# Altium schematic symbol library Lib1.SchLib: 50 symbols
Pins are listed as number, name and electrical type; pins without a type are passive.

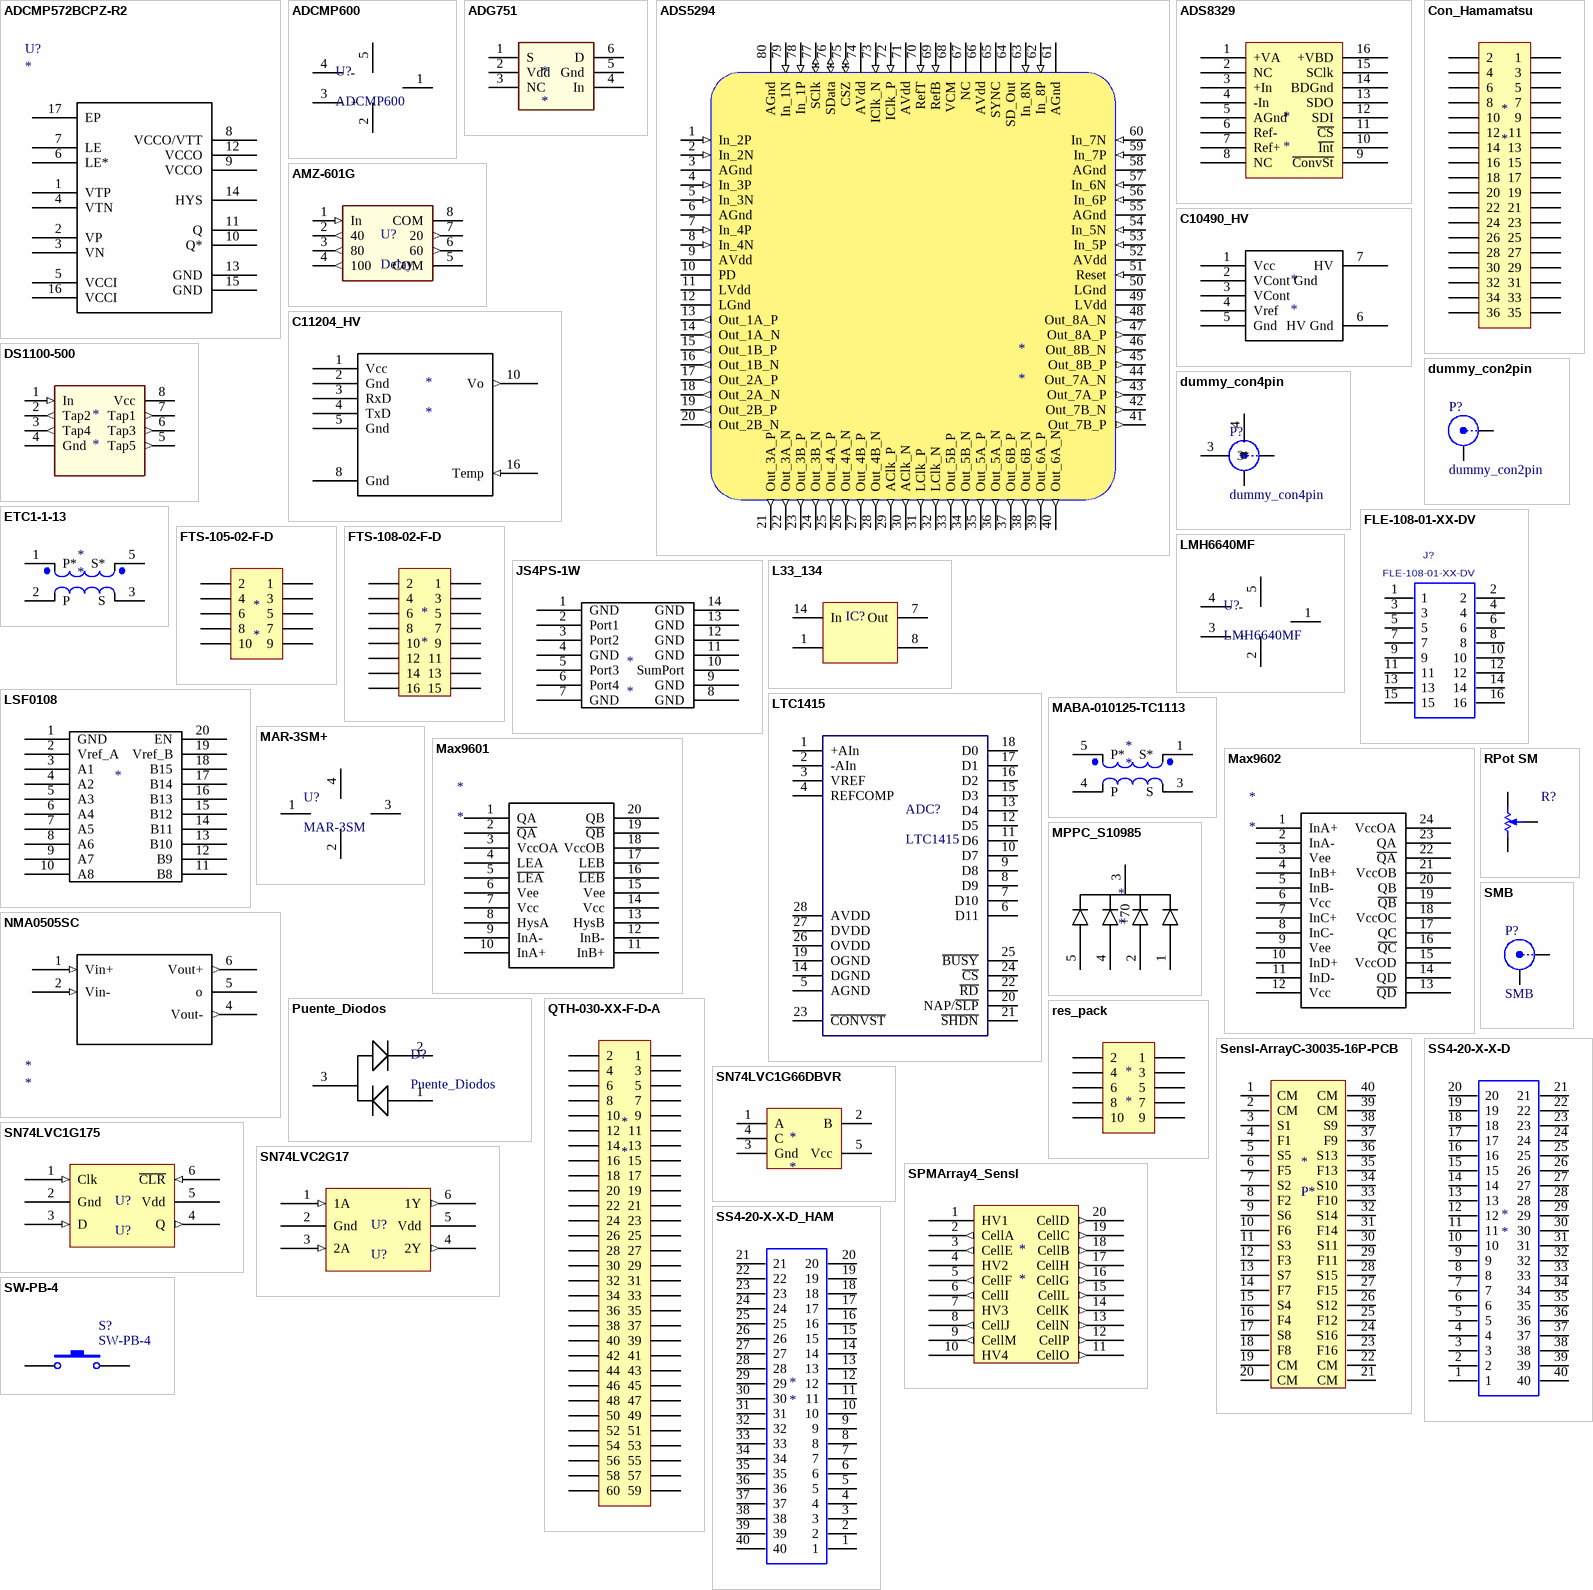
[diagram p0: symbols ADCMP572BCPZ-R2 to SW-PB-4]

## ADCMP572BCPZ-R2
designator U?
Imported; Manufacturer_Part_Number: ADCMP572BCPZ-R2; Vendor: Vendor; RefDes: RefDes; Type: DEV; Value: Value
footprint CP_16_3
pins: 1 VTP, 2 VP, 3 VN, 4 VTN, 5 VCCI (power), 6 LE*, 7 LE, 8 VCCO/VTT (power), 9 VCCO (power), 10 Q*, 11 Q, 12 VCCO (power), 13 GND, 14 HYS, 15 GND, 16 VCCI (power), 17 EP

## ADCMP600
designator U?
footprint SOT23-5_N (SOT23, 5-Leads, Body 2.9x1.6mm, Pitch 0.95mm, Lead Span 2.8mm, IPC Medium Density)
pins: 1, 2 (power), 3 +, 4 -, 5 (power)

## ADG751
designator *
footprint SOT-23_A (SOT-457/SC-74; 6 Leads; Body 3.1 x 3 mm, inc. leads (LxW max))
pins: 1 S, 2 Vdd (power), 3 NC, 4 In, 5 Gnd (power), 6 D

## ADS5294
designator *
footprint PFP80_M (80-Pin Plastic Quad Flat Pack PowerPAD, IPC Low Density)
pins: 1 In_2P (in), 2 In_2N (in), 3 AGnd (power), 4 In_3P (in), 5 In_3N (in), 6 AGnd (power), 7 In_4P (in), 8 In_4N (in), 9 AVdd (power), 10 PD, 11 LVdd (power), 12 LGnd (power), 13 Out_1A_P (out), 14 Out_1A_N (out), 15 Out_1B_P (out), 16 Out_1B_N (out), 17 Out_2A_P (out), 18 Out_2A_N (out), 19 Out_2B_P (out), 20 Out_2B_N (out), 21 Out_3A_P (out), 22 Out_3A_N (out), 23 Out_3B_P (out), 24 Out_3B_N (out), 25 Out_4A_P (out), 26 Out_4A_N (out), 27 Out_4B_P (out), 28 Out_4B_N (out), 29 AClk_P (out), 30 AClk_N (out), 31 LClk_P (out), 32 LClk_N (out), 33 Out_5B_P (out), 34 Out_5B_N (out), 35 Out_5A_P (out), 36 Out_5A_N (out), 37 Out_6B_P (out), 38 Out_6B_N (out), 39 Out_6A_P (out), 40 Out_6A_N (out), 41 Out_7B_P (out), 42 Out_7B_N (out), 43 Out_7A_P (out), 44 Out_7A_N (out), 45 Out_8B_P (out), 46 Out_8B_N (out), 47 Out_8A_P (out), 48 Out_8A_N (out), 49 LVdd (power), 50 LGnd (power), 51 Reset (in), 52 AVdd (power), 53 In_5P (in), 54 In_5N (in), 55 AGnd (power), 56 In_6P (in), 57 In_6N (in), 58 AGnd (power), 59 In_7P (in), 60 In_7N (in), 61 AGnd (power), 62 In_8P (in), 63 In_8N (in), 64 SD_Out, 65 SYNC, 66 AVdd (power), 67 NC, 68 VCM (power), 69 RefB (in), 70 RefT (in), 71 AVdd (power), 72 IClk_P (in), 73 IClk_N (in), 74 AVdd (power), 75 CSZ (io), 76 SData (io), 77 SClk (io), 78 In_1P (in), 79 In_1N (in), 80 AGnd (power)

## ADS8329
designator *
footprint PW-R-PDSO-G16
pins: 1 +VA, 2 NC, 3 +In, 4 -In, 5 AGnd, 6 Ref-, 7 Ref+, 8 NC, 9 ~{ConvSt}, 10 ~{Int}, 11 ~{CS}, 12 SDI, 13 SDO, 14 BDGnd, 15 SClk, 16 +VBD

## AMZ-601G
designator U?, comment Delay
footprint AMZ-G-SMD
pins: 1 In (in), 2 40 (out), 3 80 (out), 4 100 (out), 5 COM (power), 6 60 (out), 7 20 (out), 8 COM (power)

## C10490_HV
designator *
footprint C10490_Ham
pins: 1 Vcc (power), 2 VCont Gnd, 3 VCont, 4 Vref, 5 Gnd, 6 HV Gnd, 7 HV

## C11204_HV
designator *
footprint C11204_HAM
pins: 1 Vcc (power), 2 Gnd, 3 RxD, 4 TxD, 5 Gnd (power), 6 NC hidden, 7 HV hidden, 8 Gnd (power), 9 NC hidden, 10 Vo (out), 11 NC hidden, 12 NC hidden, 13 NC hidden, 14 NC hidden, 15 NC hidden, 16 Temp (in)

## Con_Hamamatsu
designator *
footprint TMM-118-XX-XX-D-SM (2.00mm pitch, 36 pin, terminal strip; double row, SMT)
footprint SQW-118-L-D
footprint SQW-118
pins: 1, 2, 3, 4, 5, 6, 7, 8, 9, 10, 11, 12, 13, 14, 15, 16, 17, 18, 19, 20, 21, 22, 23, 24, 25, 26, 27, 28, 29, 30, 31, 32, 33, 34, 35, 36

## DS1100-500
designator *
footprint SO-8_L (8-Pin Small Outline Integrated Circuit 1.27 mm Pitch, IPC High Density)
pins: 1 In (in), 2 Tap2 (out), 3 Tap4 (out), 4 Gnd (power), 5 Tap5 (out), 6 Tap3 (out), 7 Tap1 (out), 8 Vcc (power)

## dummy_con2pin
designator P?
SMB Straight Connector; LatestRevisionDate: 17-Jul-2002; LatestRevisionNote: Re-released for DXP Platform.; Publisher: Altium Limited
footprint 0603-2
footprint Osc_AB26TRB
footprint Osc_ABM3
footprint Osc_ABS07
pins: 1 X, 2 Y

## dummy_con4pin
designator P?
SMB Straight Connector; LatestRevisionDate: 17-Jul-2002; LatestRevisionNote: Re-released for DXP Platform.; Publisher: Altium Limited
footprint Osc_ABM8
pins: 1 X, 2 Y, 3, 4

## ETC1-1-13
designator *
footprint balun_trans (SOT-23/SC-74A; 5 Leads; Body 3 x 3 mm, inc. leads (LxW max))
pins: 1 P*, 2 P, 3 S, 5 S*

## FLE-108-01-XX-DV
designator J?
DUAL ROW 0.050'' STRIP ASSEMBLY.; MANUFACTURER: SAMTEC; CREATED: December 2, 2014 - Wendy Xin; PCB DECAL: FLE-108-01-XX-DV
footprint FLE-108-01-XX-DV
pins: 1, 2, 3, 4, 5, 6, 7, 8, 9, 10, 11, 12, 13, 14, 15, 16

## FTS-105-02-F-D
designator *
footprint FTS-105-XX-X-DV
footprint MHDR2X5 (Connector; Header; 5x2 Position)
pins: 1, 2, 3, 4, 5, 6, 7, 8, 9, 10

## FTS-108-02-F-D
designator *
footprint FTS-108-XX-X-DV
footprint MHDR2X8 (Connector; Header; 8x2 Position)
pins: 1, 2, 3, 4, 5, 6, 7, 8, 9, 10, 11, 12, 13, 14, 15, 16

## JS4PS-1W
designator *
footprint JS4PS-1W
pins: 1 GND (power), 2 Port1 (power), 3 Port2, 4 GND, 5 Port3, 6 Port4, 7 GND, 8 GND, 9 GND, 10 SumPort, 11 GND, 12 GND, 13 GND, 14 GND

## L33_134
designator IC?
footprint DIL14 (DIP; 14 Round Pins; Row Space 22.86 mm; Pitch 5.08 mm)
pins: 1  , 7 Out, 8, 14 In

## LMH6640MF
designator U?
footprint SOT23-5_N (SOT23, 5-Leads, Body 2.9x1.6mm, Pitch 0.95mm, Lead Span 2.8mm, IPC Medium Density)
pins: 1, 2 (power), 3 +, 4 -, 5 (power)

## LSF0108
designator *  (value not drawn)
footprint TSSOP20_M (Footprint not found)
pins: 1 GND (power), 2 Vref_A (power), 3 A1, 4 A2, 5 A3, 6 A4, 7 A5, 8 A6, 9 A7, 10 A8, 11 B8, 12 B9, 13 B10, 14 B11, 15 B12, 16 B13, 17 B14, 18 B15, 19 Vref_B, 20 EN

## LTC1415
designator ADC?
footprint SSOP28 (SSOP, Plastic; 28 Leads; Body Width 5.3 mm; Pitch 0.65 mm)
footprint SO28_N (28-Pin Plastic Small Outline Integrated Circuit 1.27 mm Pitch, IPC Medium Density)
pins: 1 +AIn, 2 -AIn, 3 VREF, 4 REFCOMP, 5 AGND, 6 D11, 7 D10, 8 D9, 9 D8, 10 D7, 11 D6, 12 D5, 13 D4, 14 DGND, 15 D3, 16 D2, 17 D1, 18 D0, 19 OGND, 20 NAP/~{SLP}, 21 ~{SHDN}, 22 ~{RD}, 23 ~{CONVST}, 24 ~{CS}, 25 ~{BUSY}, 26 OVDD, 27 DVDD, 28 AVDD

## MABA-010125-TC1113
designator *
footprint balun_trans (SOT-23/SC-74A; 5 Leads; Body 3 x 3 mm, inc. leads (LxW max))
footprint SM-22 (SOT-23/SC-74A; 5 Leads; Body 3 x 3 mm, inc. leads (LxW max))
pins: 1 S*, 3 S, 4 P, 5 P*

## MAR-3SM+
designator U?, comment MAR-3SM
footprint WW107 (SOT-23/SC-74A; 5 Leads; Body 3 x 3 mm, inc. leads (LxW max))
pins: 1, 2 (power), 3, 4 (power)

## Max9601
designator *
footprint TSSOP20 (Shrink Small Outline; 20 Leads; Body Width 4.4 mm; Pitch 0.65 mm)
pins: 1 QA, 2 ~{QA}, 3 VccOA, 4 LEA, 5 ~{LEA} (power), 6 Vee, 7 Vcc, 8 HysA (power), 9 InA- (power), 10 InA+, 11 InB+, 12 InB- (power), 13 HysB, 14 Vcc, 15 Vee, 16 ~{LEB} (power), 17 LEB, 18 VccOB, 19 ~{QB}, 20 QB

## Max9602
designator *
footprint TSSOP24 (Shrink Small Outline; 24 Leads; Body Width 4.4 mm; Pitch 0.65 mm)
pins: 1 InA+, 2 InA-, 3 Vee, 4 InB+, 5 InB- (power), 6 Vcc, 7 InC+, 8 InC- (power), 9 Vee (power), 10 InD+, 11 InD-, 12 Vcc (power), 13 ~{QD}, 14 QD, 15 VccOD, 16 ~{QC} (power), 17 QC, 18 VccOC, 19 ~{QB}, 20 QB, 21 VccOB, 22 ~{QA}, 23 QA, 24 VccOA

## MPPC_S10985
designator *
footprint S10985_HAM
pins: 1 Pin1, 2 Pin2, 3 +70, 4, 5

## NMA0505SC
designator *
footprint NMA0505SC_SIP
pins: 1 Vin+ (in), 2 Vin- (in), 4 Vout- (out), 5 o (power), 6 Vout+ (out)

## Puente_Diodos
designator D?
footprint SOT-23B_N (Footprint not found)
pins: 1, 2, 3

## QTH-030-XX-F-D-A
designator *
footprint QTH-030-XX-D-A
pins: 1, 2, 3, 4, 5, 6, 7, 8, 9, 10, 11, 12, 13, 14, 15, 16, 17, 18, 19, 20, 21, 22, 23, 24, 25, 26, 27, 28, 29, 30, 31, 32, 33, 34, 35, 36, 37, 38, 39, 40, 41, 42, 43, 44, 45, 46, 47, 48, 49, 50, 51, 52, 53, 54, 55, 56, 57, 58, 59, 60

## res_pack
designator *
footprint 1608_res_pack
pins: 1, 2, 3, 4, 5, 6, 7, 8, 9, 10

## RPot SM
designator R?
Square Trimming Potentiometer; Published: 17-Dec-2003; DatasheetVersion: Oct-2003; PackageReference: POT4MM-2; Publisher: Altium Limited; PackageDescription: Square Trimming Potentiometer; ComponentLink1Description: Manufacturer Link; ComponentLink1URL: http://bourns.com/2/search.html
footprint POT4MM-2 (Square Trimming Potentiometer)
footprint POT-3MM-SMD (Square Trimming Potentiometer)
pins: CCW -, CW +, W
1 alternate drawing of the same symbol

## Sensl-ArrayC-30035-16P-PCB
designator *, comment P*
footprint DS17(3.0)-40DS-0.5(0.57)
pins: 1 CM, 2 CM, 3 S1, 4 F1, 5 S5, 6 F5, 7 S2, 8 F2, 9 S6, 10 F6, 11 S3, 12 F3, 13 S7, 14 F7, 15 S4, 16 F4, 17 S8, 18 F8, 19 CM, 20 CM, 21 CM, 22 CM, 23 F16, 24 S16, 25 F12, 26 S12, 27 F15, 28 S15, 29 F11, 30 S11, 31 F14, 32 S14, 33 F10, 34 S10, 35 F13, 36 S13, 37 F9, 38 S9, 39 CM, 40 CM

## SMB
designator P?
SMB Straight Connector; LatestRevisionDate: 17-Jul-2002; LatestRevisionNote: Re-released for DXP Platform.; Publisher: Altium Limited
footprint SMB_V-RJ45 (Connector; SMB Straight)
signal-integrity model Connector
footprint SMB_EDGE (SOT-23/SC-74A; 5 Leads; Body 3 x 3 mm, inc. leads (LxW max))
footprint SMA-SMD
pins: 1 X, 2 Y

## SN74LVC1G66DBVR
designator *
footprint SOT23-5 (SOT-23/SC-74A; 5 Leads; Body 3 x 3 mm, inc. leads (LxW max))
pins: 1 A, 2 B, 3 Gnd, 4 C, 5 Vcc

## SN74LVC1G175
designator U?, comment U?
D-type flip-flop with clear
footprint SOT23-6_N (Footprint not found)
pins: 1 Clk (in), 2 Gnd (power), 3 D (in), 4 Q (out), 5 Vdd (power), 6 ~{CLR} (in)

## SN74LVC2G17
designator U?, comment U?
Schmitt Buffer 2 gates
footprint SOT23-6_N (Footprint not found)
pins: 1 1A (in), 2 Gnd (power), 3 2A (in), 4 2Y (out), 5 Vdd (power), 6 1Y (out)

## SPMArray4_Sensl
designator *
footprint Sensl_PGA20P
footprint Sensl_PGA20P_v2
pins: 1 HV1 (power), 2 CellA (out), 3 CellE (out), 4 HV2 (power), 5 CellF (out), 6 CellI (out), 7 HV3 (power), 8 CellJ (out), 9 CellM (out), 10 HV4 (power), 11 CellO (out), 12 CellP (out), 13 CellN (out), 14 CellK (out), 15 CellL (out), 16 CellG (out), 17 CellH (out), 18 CellB (out), 19 CellC (out), 20 CellD (out)

## SS4-20-X-X-D
designator *
footprint SS4-20-X-X-D
pins: 1, 2, 3, 4, 5, 6, 7, 8, 9, 10, 11, 12, 13, 14, 15, 16, 17, 18, 19, 20, 21, 22, 23, 24, 25, 26, 27, 28, 29, 30, 31, 32, 33, 34, 35, 36, 37, 38, 39, 40

## SS4-20-X-X-D_HAM
designator *
footprint SS4-20-X-X-D
pins: 1, 2, 3, 4, 5, 6, 7, 8, 9, 10, 11, 12, 13, 14, 15, 16, 17, 18, 19, 20, 21, 22, 23, 24, 25, 26, 27, 28, 29, 30, 31, 32, 33, 34, 35, 36, 37, 38, 39, 40

## SW-PB-4
designator S?
Switch; Published: 24-Mar-1999; LatestRevisionDate: 17-Jul-2002; LatestRevisionNote: Re-released for DXP Platform.; PackageReference: SPST-2; Publisher: Altium Limited; PackageDescription: Switch; 2 Leads
footprint Swtich 6x6 SMD (Switch 4 leads 6 x 6 mm, SMD)
pins: 1, 2, 3, 4

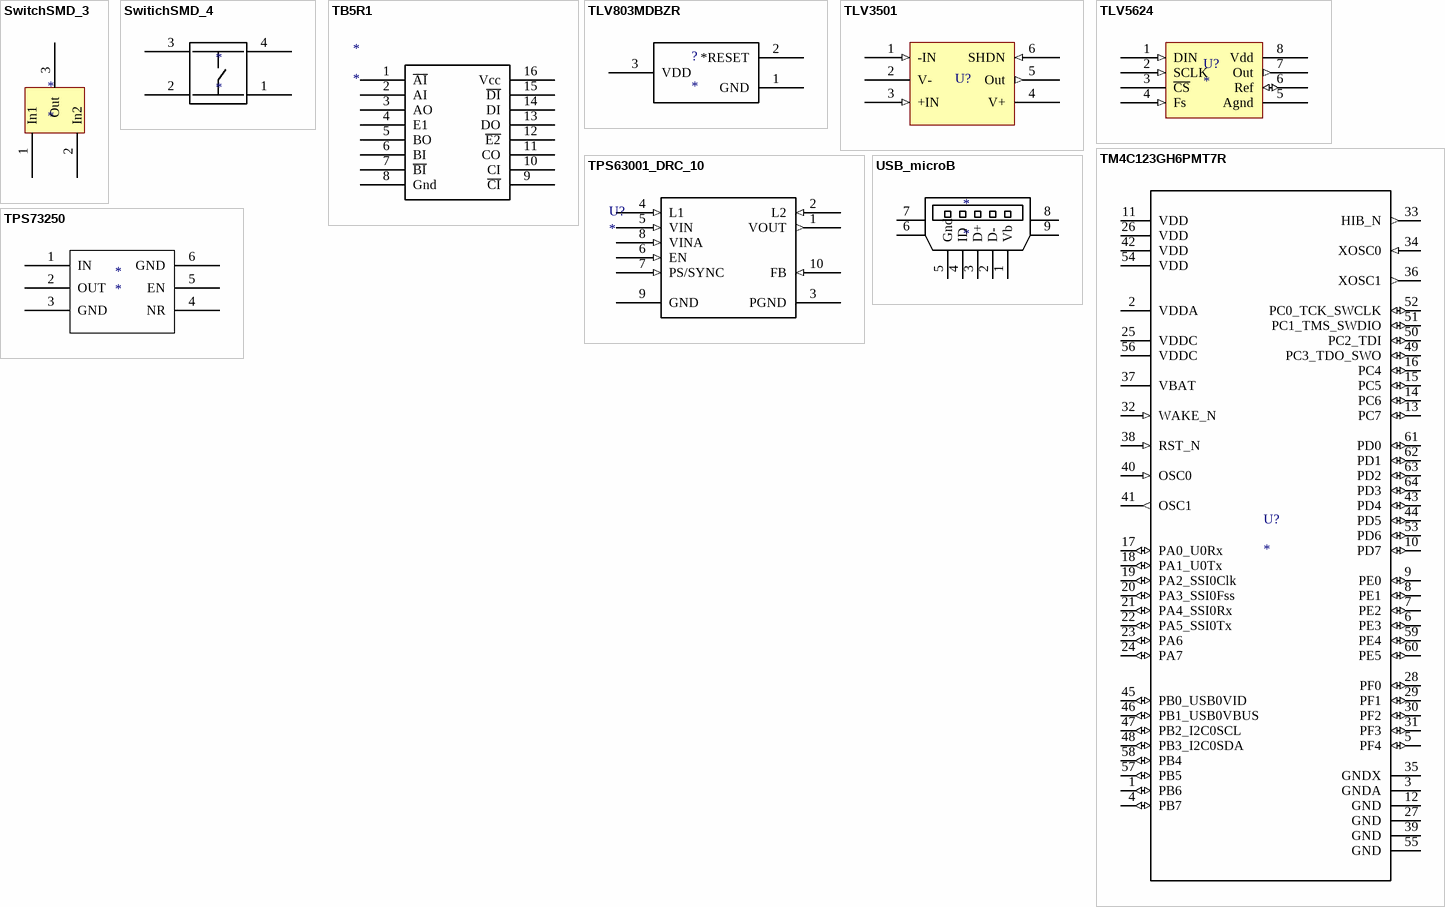
[diagram p1: symbols SwitchSMD_3 to USB_microB]

## SwitchSMD_3
designator *
footprint SwitchSMD_0603 (3 pins 0603)
pins: 1 In1, 2 In2, 3 Out

## SwitichSMD_4
designator *
footprint Swtich 6x6 SMD (Switch 4 leads 6 x 6 mm, SMD)
pins: 1 In1, 2 In2, 3 Out, 4 Out

## TB5R1
designator *
footprint SOIC16_N (SOIC, 16-Leads, Body 9.9x3.9mm, Pitch 1.27mm, IPC Medium Density)
pins: 1 ~{AI}, 2 AI, 3 AO, 4 E1, 5 BO (power), 6 BI, 7 ~{BI}, 8 Gnd (power), 9 ~{CI} (power), 10 CI, 11 CO, 12 ~{E2} (power), 13 DO, 14 DI, 15 ~{DI}, 16 Vcc (power)

## TLV803MDBZR
designator ?
Imported; Manufacturer_Part_Number: TLV803MDBZR; GENERIC_PART_NUMBER: TLV803M; Vendor: Texas Instruments; PACKAGE_DESIGNATOR: DBZ; PIN_COUNT: 3; FAMILY_NAME: SUPERVISOR AND RESET IC; INDUSTRY_STD_PKG_TYPE: SOT-23; 3D_Library_Name: TI_AllParts_2012-12-25; C: Copyright (C) 2015 Accelerated Designs. All rights reserved; Datasheet URL: http://www.ti.com/lit/gpn/TLV803M; Manufacturer: Texas Instruments; Copyright: Copyright (C) 2015 Accelerated Designs. All rights reserved; RefDes: RefDes; Type: DEV; Value: Value
footprint DBZ3
pins: 1 GND (power), 2 *RESET, 3 VDD (power)

## TLV3501
designator U?
Analog Comparator
footprint SOT23-6_N (Footprint not found)
pins: 1 -IN (in), 2 V- (power), 3 +IN (in), 4 V+ (power), 5 Out (out), 6 SHDN (in)

## TLV5624
designator U?
DAC, internal reference, SPI
footprint SO-8_N (Footprint not found)
pins: 1 DIN (in), 2 SCLK (in), 3 ~{CS}, 4 Fs (in), 5 Agnd (power), 6 Ref (io), 7 Out (out), 8 Vdd (power)

## TM4C123GH6PMT7R
designator U?
Imported; PartNumber: TM4C123GH6PMTR; Alternate PartNumber: TM4C123GH6PMT; Manufacturer: Texas Instruments; CompType: IC; PIN_COUNT: 64; Application_BuildNumber: *; PackageReference: PM0064A; MountType: SMT; RoHS: Y; RefDes: RefDes; Type: DEV; Value: Value
footprint PM0064A_N
footprint PM0064A_M
pins: 1 PB6 (io), 2 VDDA (power), 3 GNDA (power), 4 PB7 (io), 5 PF4 (io), 6 PE3 (io), 7 PE2 (io), 8 PE1 (io), 9 PE0 (io), 10 PD7 (io), 11 VDD (power), 12 GND (power), 13 PC7 (io), 14 PC6 (io), 15 PC5 (io), 16 PC4 (io), 17 PA0_U0Rx (io), 18 PA1_U0Tx (io), 19 PA2_SSI0Clk (io), 20 PA3_SSI0Fss (io), 21 PA4_SSI0Rx (io), 22 PA5_SSI0Tx (io), 23 PA6 (io), 24 PA7 (io), 25 VDDC (power), 26 VDD (power), 27 GND (power), 28 PF0 (io), 29 PF1 (io), 30 PF2 (io), 31 PF3 (io), 32 WAKE_N (in), 33 HIB_N (out), 34 XOSC0 (in), 35 GNDX (power), 36 XOSC1 (out), 37 VBAT (power), 38 RST_N (in), 39 GND (power), 40 OSC0 (in), 41 OSC1 (out), 42 VDD (power), 43 PD4 (io), 44 PD5 (io), 45 PB0_USB0VID (io), 46 PB1_USB0VBUS (io), 47 PB2_I2C0SCL (io), 48 PB3_I2C0SDA (io), 49 PC3_TDO_SWO (io), 50 PC2_TDI (io), 51 PC1_TMS_SWDIO (io), 52 PC0_TCK_SWCLK (io), 53 PD6 (io), 54 VDD (power), 55 GND (power), 56 VDDC (power), 57 PB5 (io), 58 PB4 (io), 59 PE4 (io), 60 PE5 (io), 61 PD0 (io), 62 PD1 (io), 63 PD2 (io), 64 PD3 (io)

## TPS63001_DRC_10
designator U?
Imported; Manufacturer_Part_Number: tps63001_drc_10; GENERIC_PART_NUMBER: TPS63001; Vendor: Texas Instruments; PACKAGE_DESIGNATOR: DRC; PIN_COUNT: 10; FAMILY_NAME: BUCK-BOOST REGULATOR; INDUSTRY_STD_PKG_TYPE: SON; Datasheet URL: http://www.ti.com/lit/gpn/TPS63001; Manufacturer: Texas Instruments; RefDes: RefDes; Type: DEV; Value: Value
footprint DRC10_2P4X1P65
pins: 1 VOUT (out), 2 L2 (in), 3 PGND (power), 4 L1 (in), 5 VIN (in), 6 EN (in), 7 PS/SYNC (in), 8 VINA (in), 9 GND (power), 10 FB (in)

## TPS73250
designator *
footprint SOT-223-DC5_M (Footprint not found)
pins: 1 IN (power), 2 OUT (power), 3 GND (power), 4 NR, 5 EN, 6 GND (power)

## USB_microB
designator *
footprint USB_microB
pins: 1 Vb, 2 D-, 3 D+, 4 ID, 5 Gnd, 6, 7, 8, 9